# EAGLE library part SUBD9_BUCHSE (library evallib)
SUB-D
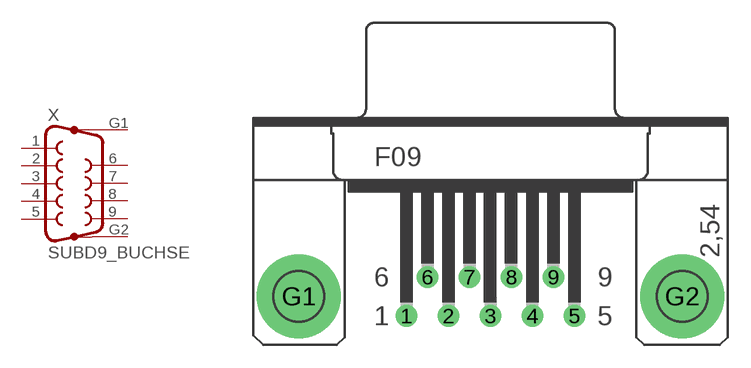
[diagram p5: symbol with the pads of F09HP; footprint F09HP]

Designator prefix X

## SUBD9_BUCHSE  [F09HP]
1  1  pas
2  2  pas
3  3  pas
4  4  pas
5  5  pas
6  6  pas
7  7  pas
8  8  pas
9  9  pas
G1  G1  pas
G2  G2  pas

## Footprint F09HP (pad centres in mm)
SUB-D
drill 0.7 pad 1.422 round: 1 -5.486,-1.27; 2 -2.743,-1.27; 3 0,-1.27; 4 2.743,-1.27; 5 5.486,-1.27; 6 -4.115,1.27; 7 -1.372,1.27; 8 1.372,1.27
drill 0.8 pad 1.422 round: 9 4.115,1.27
drill 3.302 pad 5.5 round: G1 -12.522,0; G2 12.522,0